# EAGLE library part LM3S9B92 (library Hoektronics)
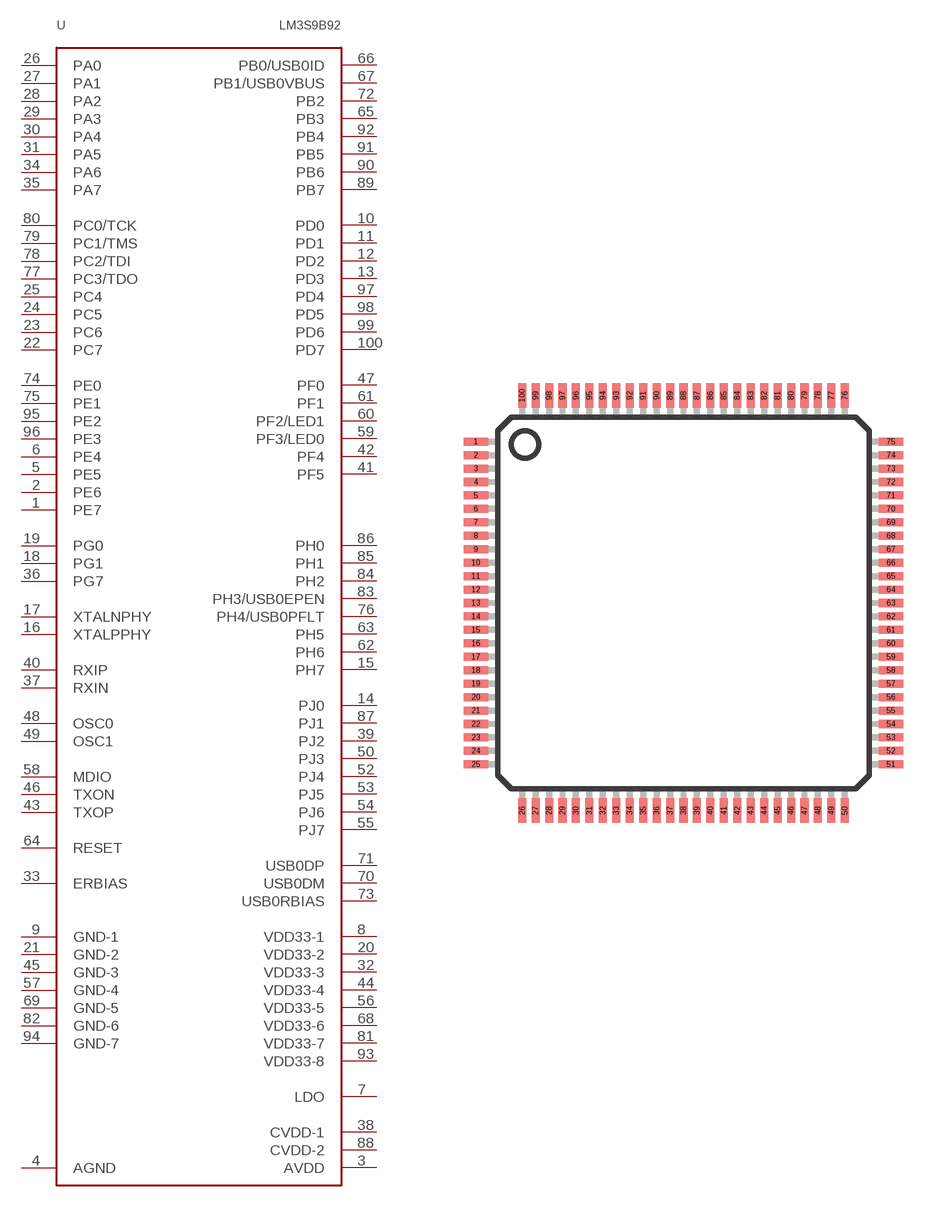
[diagram p3: symbol with the pads of LQFP100; footprint LQFP100]

Designator prefix -

## LM3S9B92-IQC80  [LQFP100]
1  PE7
2  PE6
3  AVDD
4  AGND
5  PE5
6  PE4
7  LDO
8  VDD33-1
9  GND-1
10  PD0
11  PD1
12  PD2
13  PD3
14  PJ0
15  PH7
16  XTALPPHY
17  XTALNPHY
18  PG1
19  PG0
20  VDD33-2
21  GND-2
22  PC7
23  PC6
24  PC5
25  PC4
26  PA0
27  PA1
28  PA2
29  PA3
30  PA4
31  PA5
32  VDD33-3
33  ERBIAS
34  PA6
35  PA7
36  PG7
37  RXIN
38  CVDD-1
39  PJ2
40  RXIP
41  PF5
42  PF4
43  TXOP
44  VDD33-4
45  GND-3
46  TXON
47  PF0
48  OSC0
49  OSC1
50  PJ3
52  PJ4
53  PJ5
54  PJ6
55  PJ7
56  VDD33-5
57  GND-4
58  MDIO
59  PF3/LED0
60  PF2/LED1
61  PF1
62  PH6
63  PH5
64  RESET
65  PB3
66  PB0/USB0ID
67  PB1/USB0VBUS
68  VDD33-6
69  GND-5
70  USB0DM
71  USB0DP
72  PB2
73  USB0RBIAS
74  PE0
75  PE1
76  PH4/USB0PFLT
77  PC3/TDO
78  PC2/TDI
79  PC1/TMS
80  PC0/TCK
81  VDD33-7
82  GND-6
83  PH3/USB0EPEN
84  PH2
85  PH1
86  PH0
87  PJ1
88  CVDD-2
89  PB7
90  PB6
91  PB5
92  PB4
93  VDD33-8
94  GND-7
95  PE2
96  PE3
97  PD4
98  PD5
99  PD6
100  PD7

## Footprint LQFP100 (pad centres in mm)
Low Profile Quad Flat Pack
smd 0.9 x 0.3: 1 -7.72,6; 2 -7.72,5.5; 3 -7.72,5; 4 -7.72,4.5; 5 -7.72,4; 6 -7.72,3.5; 7 -7.72,3; 8 -7.72,2.5; 9 -7.72,2; 10 -7.72,1.5; 11 -7.72,1; 12 -7.72,0.5; 13 -7.72,0; 14 -7.72,-0.5; 15 -7.72,-1; 16 -7.72,-1.5; 17 -7.72,-2; 18 -7.72,-2.5; 19 -7.72,-3; 20 -7.72,-3.5; 21 -7.72,-4; 22 -7.72,-4.5; 23 -7.72,-5; 24 -7.72,-5.5; 25 -7.72,-6; 51 7.72,-6; 52 7.72,-5.5; 53 7.72,-5; 54 7.72,-4.5; 55 7.72,-4; 56 7.72,-3.5; 57 7.72,-3; 58 7.72,-2.5; 59 7.72,-2; 60 7.72,-1.5; 61 7.72,-1; 62 7.72,-0.5; 63 7.72,0; 64 7.72,0.5; 65 7.72,1; 66 7.72,1.5; 67 7.72,2; 68 7.72,2.5; 69 7.72,3; 70 7.72,3.5; 71 7.72,4; 72 7.72,4.5; 73 7.72,5; 74 7.72,5.5; 75 7.72,6
smd 0.3 x 0.9: 26 -6,-7.72; 27 -5.5,-7.72; 28 -5,-7.72; 29 -4.5,-7.72; 30 -4,-7.72; 31 -3.5,-7.72; 32 -3,-7.72; 33 -2.5,-7.72; 34 -2,-7.72; 35 -1.5,-7.72; 36 -1,-7.72; 37 -0.5,-7.72; 38 0,-7.72; 39 0.5,-7.72; 40 1,-7.72; 41 1.5,-7.72; 42 2,-7.72; 43 2.5,-7.72; 44 3,-7.72; 45 3.5,-7.72; 46 4,-7.72; 47 4.5,-7.72; 48 5,-7.72; 49 5.5,-7.72; 50 6,-7.72; 76 6,7.72; 77 5.5,7.72; 78 5,7.72; 79 4.5,7.72; 80 4,7.72; 81 3.5,7.72; 82 3,7.72; 83 2.5,7.72; 84 2,7.72; 85 1.5,7.72; 86 1,7.72; 87 0.5,7.72; 88 0,7.72; 89 -0.5,7.72; 90 -1,7.72; 91 -1.5,7.72; 92 -2,7.72; 93 -2.5,7.72; 94 -3,7.72; 95 -3.5,7.72; 96 -4,7.72; 97 -4.5,7.72; 98 -5,7.72; 99 -5.5,7.72; 100 -6,7.72